# Altium footprint library 温室大棚监控1.PcbLib: 20 footprints (part 1 of 2)
Each footprint in its own frame and in the unit in brackets; x right, y up, seen from the top. Pads: shape width x height; smd on the part's side, far side on the other; paste and mask are expansions set on the pad; w line width, h text height; cw(c..) or ccw(c..) is an arc to the next point about the centre after c.
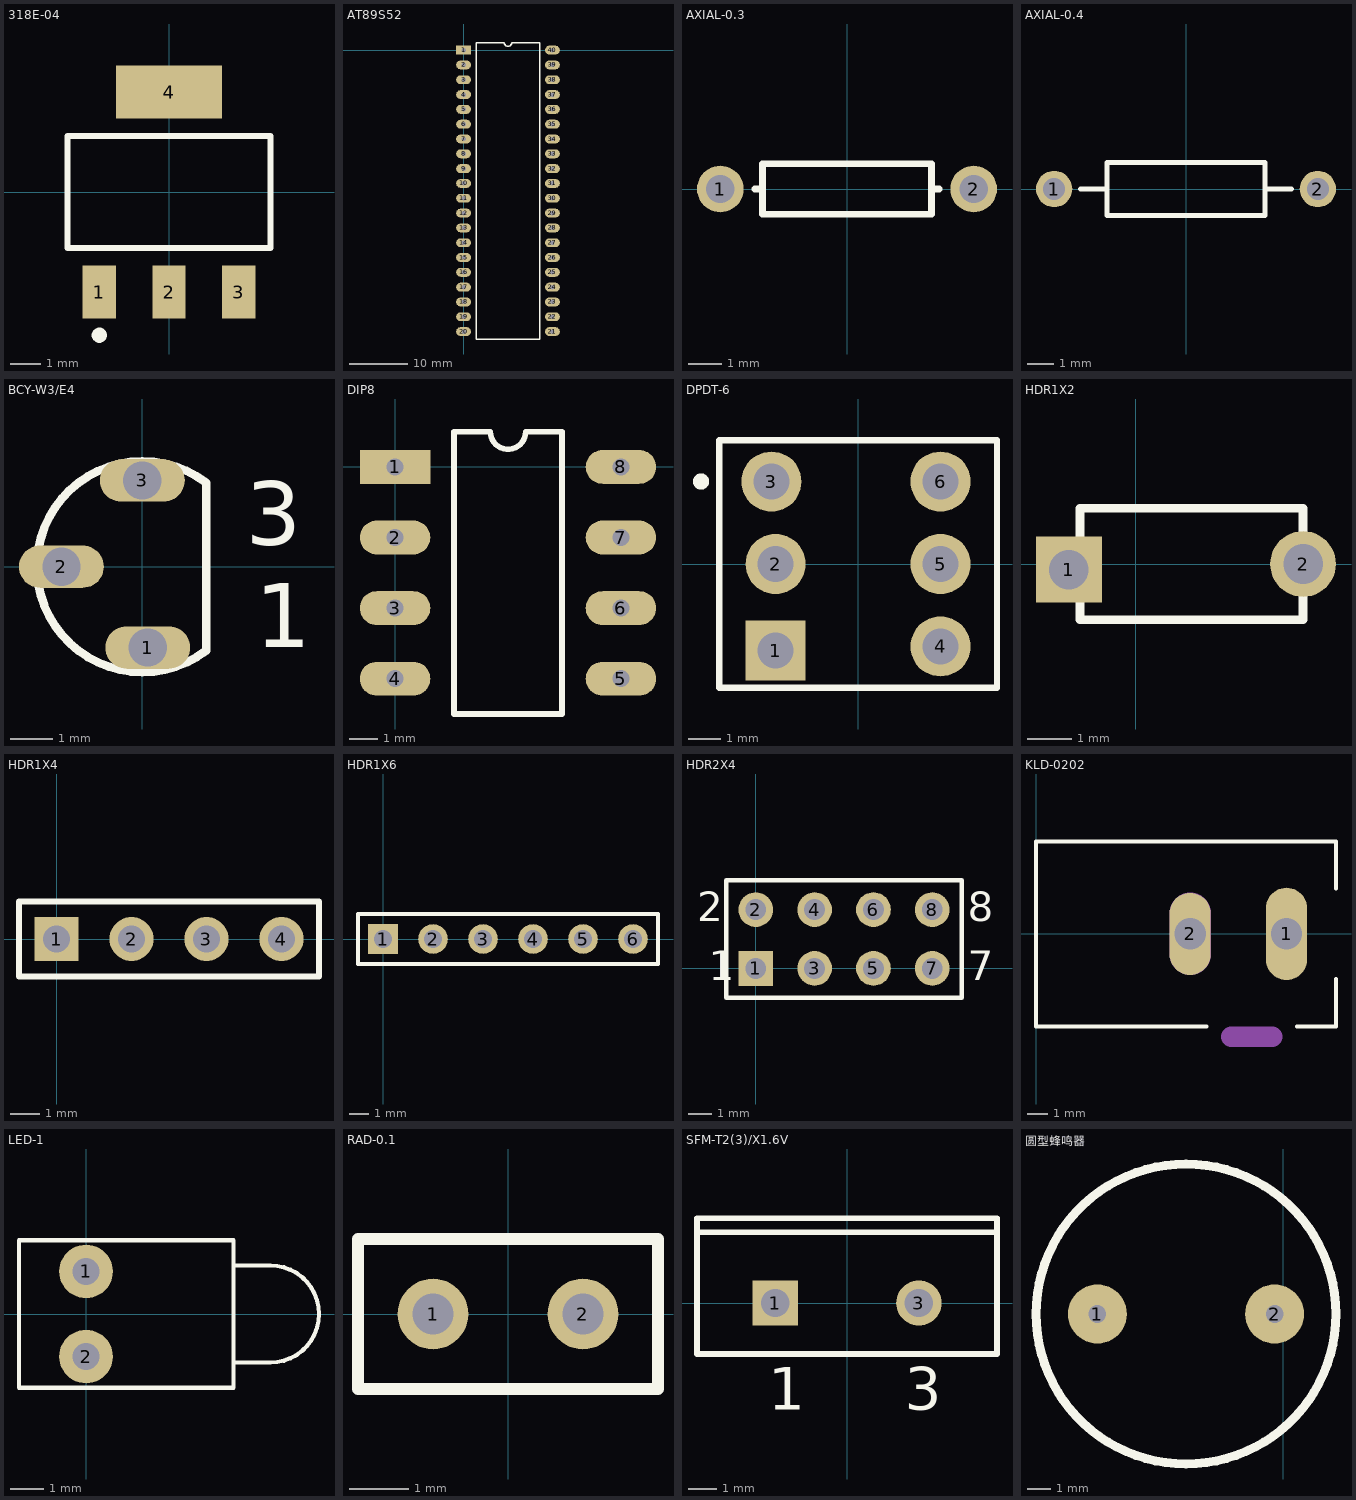
[diagram p0: the footprints below, top view; thin cyan lines are the x and y axes]

## 318E-04 [mm]
pads (4):
  rect 1.1x1.75 smd: 1(-2.3,-3.3) 2(0,-3.3) 3(2.3,-3.3)
  rect 3.5x1.75 smd: 4(0,3.3)
Top Overlay:
  circle w0.25: c-2.3,-4.725 r0.125
  lines w0.2: -3.35,-1.85 3.35,-1.85 3.35,1.85 -3.35,1.85 -3.35,-1.85

## AT89S52 [mil]
pads (40):
  rect 100x60 hole 30: 1(0,0)
  oval 100x60 hole 30: 2(0,-100) 3(0,-200) 4(0,-300) 5(0,-400) 6(0,-500) 7(0,-600) 8(0,-700) 9(0,-800) 10(0,-900) 11(0,-1000) 12(0,-1100) 13(0,-1200) 14(0,-1300) 15(0,-1400) 16(0,-1500) 17(0,-1600) 18(0,-1700) 19(0,-1800) 20(0,-1900) 21(600,-1900) 22(600,-1800) 23(600,-1700) 24(600,-1600) 25(600,-1500) 26(600,-1400) 27(600,-1300) 28(600,-1200) 29(600,-1100) 30(600,-1000) 31(600,-900) 32(600,-800) 33(600,-700) 34(600,-600) 35(600,-500) 36(600,-400) 37(600,-300) 38(600,-200) 39(600,-100) 40(600,0)
Top Overlay:
  lines w10: 85,-1950 85,50 275,50 ccw(c300,50) 325,50 515,50 515,-1950 85,-1950

## AXIAL-0.3 [mm]
pads (2):
  round 1.4 hole 0.85: 1(-3.81,0) 2(3.81,0)
Top Overlay:
  lines w0.2: -2.769,0 -2.54,0 ; 2.769,0 2.54,0 ; 2.54,0 2.54,0.762 -2.54,0.762 -2.54,-0.762 2.54,-0.762 2.54,0

## AXIAL-0.4 [mm]
pads (2):
  round 1.4 hole 0.85: 1(-5.08,0) 2(5.08,0)
Top Overlay:
  lines w0.2: -4.064,0 -3.048,0 ; 3.048,0 4.064,0 ; -3.048,-1.016 -3.048,1.016 3.048,1.016 3.048,-1.016 -3.048,-1.016

## BCY-W3/E4 [mm]
pads (3):
  oval 2x1 hole 0.9: 1(0.127,-1.905) 2(-1.905,0) 3(0,2.032)
Top Overlay:
  lines w0.2: 1.5,-1.98 cw(c0,0) 1.5,1.98 1.5,-1.98
  text "1" at 2.66,-1.9 h1.5
  text "3" at 2.43,0.51 h1.5

## DIP8 [mm]
pads (8):
  rect 2.5x1.2 hole 0.6: 1(0,0)
  oval 2.5x1.2 hole 0.6: 2(0,-2.5) 3(0,-5) 4(0,-7.5) 5(8,-7.5) 6(8,-5) 7(8,-2.5) 8(8,0)
Top Overlay:
  lines w0.2: 2.085,-8.75 5.915,-8.75 5.915,1.25 4.625,1.25 cw(c4,1.25) 3.375,1.25 2.085,1.25 2.085,-8.75

## DPDT-6 [mm]
pads (6):
  rect 1.85x1.85 hole 1.1: 1(-2.54,-2.667)
  round 1.85 hole 1.1: 2(-2.54,0) 3(-2.667,2.54) 4(2.54,-2.54) 5(2.54,0) 6(2.54,2.54)
Top Overlay:
  circle w0.25: c-4.836,2.541 r0.125
  lines w0.2: -4.28,-3.81 -4.28,3.81 4.28,3.81 4.28,-3.81 -4.28,-3.81

## HDR1X2 [mm]
pads (2):
  rect 1.5x1.5 hole 0.9: 1(-1.524,-0.127)
  round 1.5 hole 0.9: 2(3.81,0)
Top Overlay:
  lines w0.2: -1.27,-1.27 -1.27,1.27 3.81,1.27 3.81,-1.27 -1.27,-1.27

## HDR1X4 [mm]
pads (4):
  rect 1.5x1.5 hole 0.9: 1(0,0)
  round 1.5 hole 0.9: 2(2.54,0) 3(5.08,0) 4(7.62,0)
Top Overlay:
  lines w0.2: -1.27,-1.27 -1.27,1.27 8.89,1.27 8.89,-1.27 -1.27,-1.27

## HDR1X6 [mm]
pads (6):
  rect 1.5x1.5 hole 0.9: 1(0,0)
  round 1.5 hole 0.9: 2(2.54,0) 3(5.08,0) 4(7.62,0) 5(10.16,0) 6(12.7,0)
Top Overlay:
  lines w0.2: -1.27,-1.27 -1.27,1.27 13.97,1.27 13.97,-1.27 -1.27,-1.27

## HDR2X4 [mm]
pads (8):
  rect 1.5x1.5 hole 0.9: 1(0,0)
  round 1.5 hole 0.9: 2(0,2.54) 3(2.54,0) 4(2.54,2.54) 5(5.08,0) 6(5.08,2.54) 7(7.62,0) 8(7.62,2.54)
Top Overlay:
  lines w0.2: -1.27,-1.27 8.89,-1.27 8.89,3.81 -1.27,3.81 -1.27,-1.27
  text "2" at -2.54,2.032 h1.27
  text "1" at -2.032,-0.508 h1.27
  text "7" at 9.144,-0.508 h1.27
  text "8" at 9.144,2.032 h1.27

## KLD-0202 [mm]
pads (2):
  oval 2x4.5 hole 1.524: 1(12.192,0)
  oval 2x4 hole 1.524: 2(7.5,0)
Top Overlay:
  lines w0.2: 8.3,-4.5 0,-4.5 0,4.5 14.6,4.5 14.6,2.2 ; 12.7,-4.5 14.6,-4.5 14.6,-2.2
Mechanical 1:
  lines w1: 7.5,-1 7.5,1 ; 9.5,-5 11.5,-5
  text "Mech 2 - Clearance, move to internal plane if present" at 0.286,5.066 h0.3
  text "Mech 1 - Slot cut-out" at 0.286,5.566 h0.3
  text "Assign keep-out area to slot" at 0.286,6.566 h0.3
  text "Alert PCB fab to slot details" at 0.286,6.066 h0.3
Mechanical 2:
  lines w2.016: 7.5,-1 7.5,1

## LED-1 [mm]
pads (2):
  round 1.6 hole 0.8: 1(0,1.27) 2(0,-1.27)
Top Overlay:
  lines w0.127: 4.4,-1.45 5.5,-1.45 ccw(c5.5,0) 5.5,1.45 4.4,1.45 ; -2,-2.2 -2,2.2 4.4,2.2 4.4,-2.2 -2,-2.2
Mechanical 1:
  lines w0.025: 4.4,-1.45 5.5,-1.45 ccw(c5.5,0) 5.5,1.45 4.4,1.45 ; -2,-2.2 -2,2.2 4.4,2.2 4.4,-2.2 -2,-2.2

## RAD-0.1 [mm]
pads (2):
  round 1.2 hole 0.7: 1(-1.27,0) 2(1.27,0)
Top Overlay:
  lines w0.2: -2.54,-1.27 -2.54,1.27 2.54,1.27 2.54,-1.27 -2.54,-1.27

## SFM-T2(3)/X1.6V [mm]
pads (2):
  rect 1.6x1.6 hole 1: 1(-2.54,0)
  round 1.6 hole 1: 3(2.54,0)
Top Overlay:
  lines w0.2: -5.3,2.5 5.3,2.5 ; -5.3,-1.8 -5.3,3 5.3,3 5.3,-1.8 -5.3,-1.8
  text "1" at -2.79,-3.775 h1.5
  text "3" at 2.04,-3.775 h1.5

## 圆型蜂鸣器 [mil]
pads (2):
  round 100 hole 30: 1(-315,285) 2(-15,285)
Top Overlay:
  circle w15: c-165,285 r253.87